# Altium footprint library Miscellaneous.PcbLib: 3 footprints
Each footprint in its own frame and in the unit in brackets; x right, y up, seen from the top. Pads: shape width x height; smd on the part's side, far side on the other; paste and mask are expansions set on the pad; w line width, h text height; cw(c..) or ccw(c..) is an arc to the next point about the centre after c.
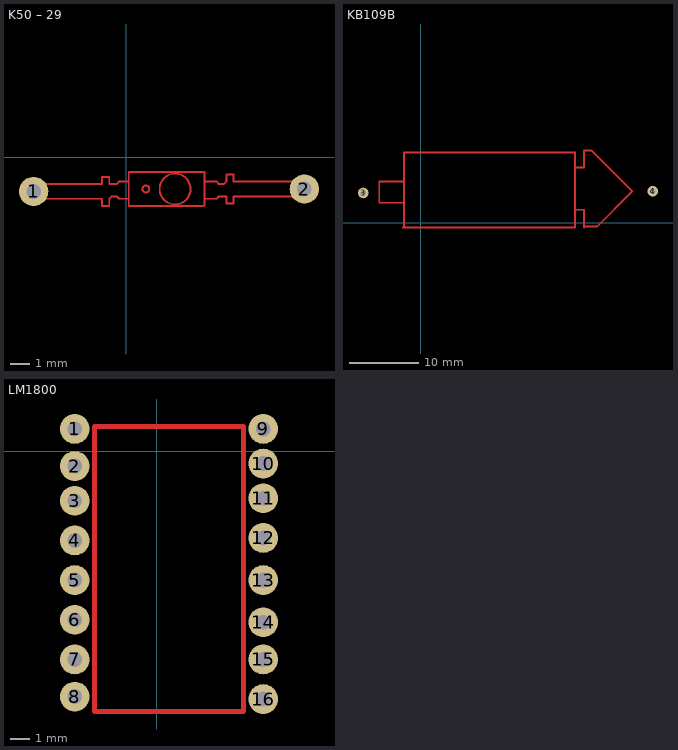
[diagram p0: the footprints below, top view; thin cyan lines are the x and y axes]

## K50 – 29 [mil]
pads (2):
  round 60 hole 30: 1(-190,-70) 2(365,-65)
Top Layer:
  circle w3.94: c40,-65 r7.07
  circle w3.94: c100,-65 r31.62
  lines w3.94: 5,-100 157.48,-100 ; 5,-98.43 5,-30 157.48,-30 ; 5,-85 -15,-85 -20,-80 -30,-80 -35,-85 -35,-100 -50,-100 -50,-85 -60,-85 -195,-85 -195,-55 -50,-55 -50,-40 -35,-40 -35,-55 -20,-55 -15,-50 5,-50 ; 160,-98.43 160,-30 ; 160,-85 185,-85 190,-80 205,-80 205,-95 220,-95 220,-80 365,-80 365,-50 230,-50 220,-50 220,-35 205,-35 205,-50 200,-55 190,-55 185,-50 160,-50

## KB109B [mil]
pads (2):
  round 60 hole 30: 3(-325,170) 4(1315,180)
Top Layer:
  lines w10: -100,-25 875,-25 875,75 ; -95,-20 -95,400 875,400 875,315 ; -95,115 -235,115 -235,235 -95,235 ; 925,-25 925,75 875,75 ; 925,-20 970,-20 1000,-20 1200,180 970,410 925,410 925,315 875,315 ; 875,75 875,315

## LM1800 [mil]
pads (16):
  round 60 hole 30: 1(-165,45) 2(-165,-30) 3(-165,-100) 4(-165,-180) 5(-165,-260) 6(-165,-340) 7(-165,-420) 8(-165,-495) 9(215,45) 10(215,-25) 11(215,-95) 12(215,-175) 13(215,-260) 14(215,-345) 15(215,-420) 16(215,-500)
Top Layer:
  lines w10: -125,-525 175,-525 175,50 -100,50 -125,50 -125,-525